# EAGLE library part TPA2016D2 (library apro)
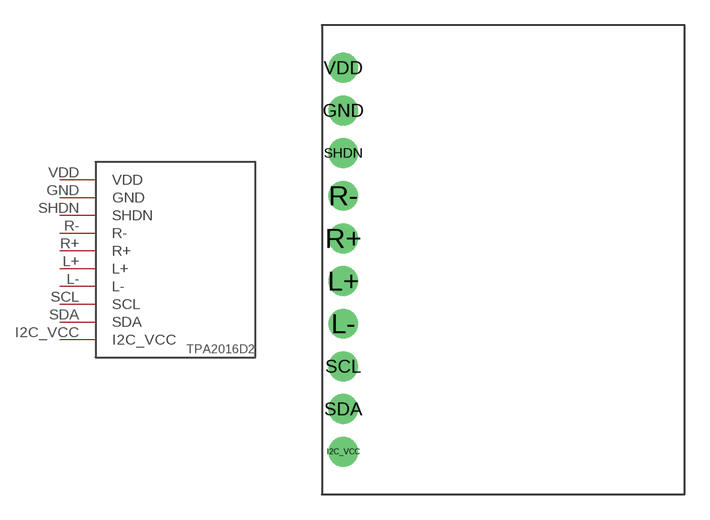
[diagram p5: symbol with the pads of TPA2016D2; footprint TPA2016D2]

Designator prefix -

## TPA2016D2  [TPA2016D2]
GND  GND
I2C_VCC  I2C_VCC
L+  L+
L-  L-
R+  R+
R-  R-
SCL  SCL
SDA  SDA
SHDN  SHDN
VDD  VDD

## Footprint TPA2016D2 (pad centres in mm)
drill 1 pad 1.778: GND -10.16,8.89; I2C_VCC -10.16,-11.43; L+ -10.16,-1.27; L- -10.16,-3.81; R+ -10.16,1.27; R- -10.16,3.81; SCL -10.16,-6.35; SDA -10.16,-8.89; SHDN -10.16,6.35; VDD -10.16,11.43